# EAGLE library part DT13-4P (library DT13-4P)
HDR, 4P, GRY, RA, NI/CU RECEPTACLE HEADER 4 PIN 90 DEG DT SERIES Source: Datasheet <https://www.te.com/commerce/DocumentDelivery/DDEController?Action=srchrtrv&DocNm=DT13-4P&DocType=Customer Drawing&DocLang=English>
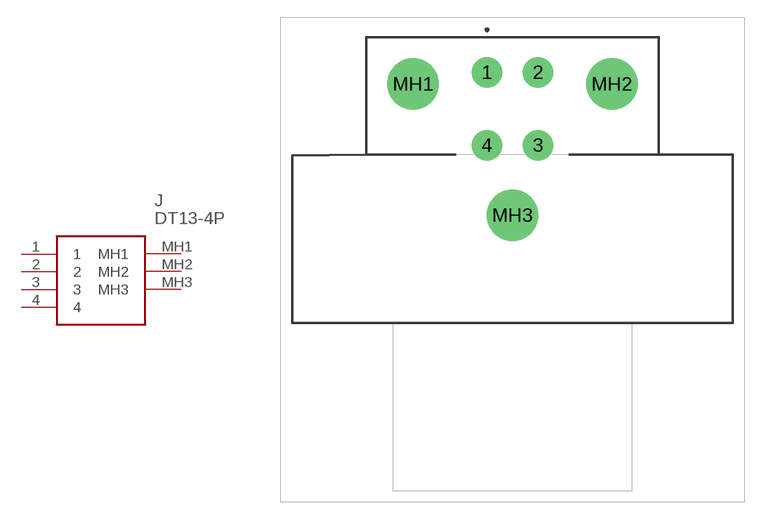
[diagram p0: symbol with the pads of DT134P; footprint DT134P]

Designator prefix J

## DT13-4P (Description: HDR, 4P, GRY, RA, NI/CU RECEPTACLE HEADER 4 PIN 90 DEG DT SERIES; Height: 36.12mm; Manufacturer_Name: TE Connectivity; Manufacturer_Part_Number: DT13-4P; Mouser_Part_Number: 571-DT13-4P; Mouser_Price-Stock: https://www.mouser.co.uk/ProductDetail/TE-Connectivity-DEUTSCH/DT13-4P?qs=vkMqrgFpRajaLeBfOZKzWQ%3D%3D)  [DT134P]
1  1
2  2
3  3
4  4
MH1  MH1
MH2  MH2
MH3  MH3

## Footprint DT134P (pad centres in mm)
DT13-4P-1
drill 1.76 pad 2.64: 1 0,0; 2 4.45,0; 3 4.45,-6.35; 4 0,-6.35
drill 2.99 pad 4.485: MH1 -6.425,-1.02; MH2 10.875,-1.02; MH3 2.225,-12.45